# Altium footprint library LQFP80(10.0X10.0).PcbLib: 1 footprints
Each footprint in its own frame and in the unit in brackets; x right, y up, seen from the top. Pads: shape width x height; smd on the part's side, far side on the other; paste and mask are expansions set on the pad; w line width, h text height; cw(c..) or ccw(c..) is an arc to the next point about the centre after c.
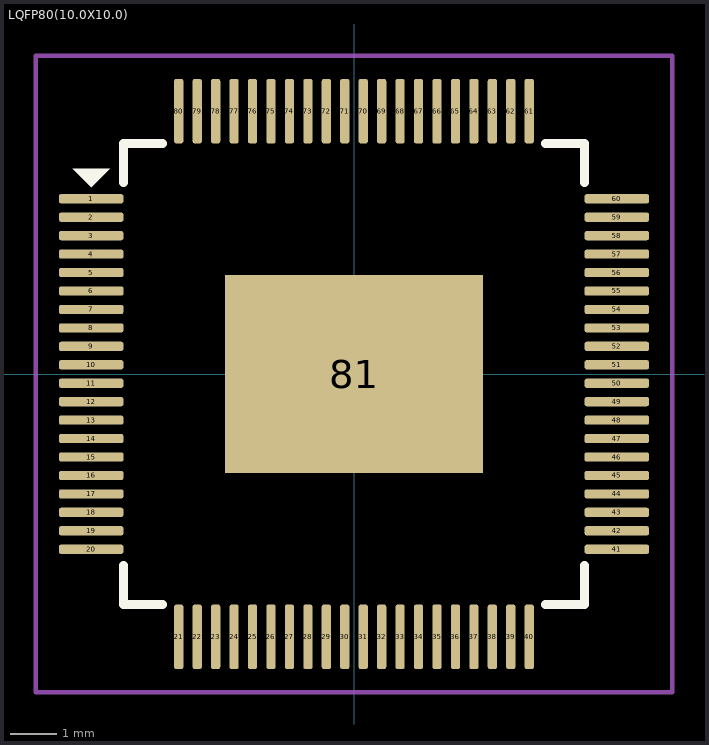
[diagram p0: the footprint, top view; thin cyan lines are the x and y axes]

## LQFP80(10.0X10.0) [mm]
pads (81):
  rrect50% 1.4x0.2 smd: 1(-5.7,3.8) 2(-5.7,3.4) 3(-5.7,3) 4(-5.7,2.6) 5(-5.7,2.2) 6(-5.7,1.8) 7(-5.7,1.4) 8(-5.7,1) 9(-5.7,0.6) 10(-5.7,0.2) 11(-5.7,-0.2) 12(-5.7,-0.6) 13(-5.7,-1) 14(-5.7,-1.4) 15(-5.7,-1.8) 16(-5.7,-2.2) 17(-5.7,-2.6) 18(-5.7,-3) 19(-5.7,-3.4) 20(-5.7,-3.8) 41(5.7,-3.8) 42(5.7,-3.4) 43(5.7,-3) 44(5.7,-2.6) 45(5.7,-2.2) 46(5.7,-1.8) 47(5.7,-1.4) 48(5.7,-1) 49(5.7,-0.6) 50(5.7,-0.2) 51(5.7,0.2) 52(5.7,0.6) 53(5.7,1) 54(5.7,1.4) 55(5.7,1.8) 56(5.7,2.2) 57(5.7,2.6) 58(5.7,3) 59(5.7,3.4) 60(5.7,3.8)
  rrect50% 0.2x1.4 smd: 21(-3.8,-5.7) 22(-3.4,-5.7) 23(-3,-5.7) 24(-2.6,-5.7) 25(-2.2,-5.7) 26(-1.8,-5.7) 27(-1.4,-5.7) 28(-1,-5.7) 29(-0.6,-5.7) 30(-0.2,-5.7) 31(0.2,-5.7) 32(0.6,-5.7) 33(1,-5.7) 34(1.4,-5.7) 35(1.8,-5.7) 36(2.2,-5.7) 37(2.6,-5.7) 38(3,-5.7) 39(3.4,-5.7) 40(3.8,-5.7) 61(3.8,5.7) 62(3.4,5.7) 63(3,5.7) 64(2.6,5.7) 65(2.2,5.7) 66(1.8,5.7) 67(1.4,5.7) 68(1,5.7) 69(0.6,5.7) 70(0.2,5.7) 71(-0.2,5.7) 72(-0.6,5.7) 73(-1,5.7) 74(-1.4,5.7) 75(-1.8,5.7) 76(-2.2,5.7) 77(-2.6,5.7) 78(-3,5.7) 79(-3.4,5.7) 80(-3.8,5.7)
  rect 5.6x4.3 smd: 81(0,0)
Top Overlay:
  region: -6.1,4.45 -5.3,4.45 -5.7,4.05
  lines w0.2: -5,-4.15 -5,-5 -4.15,-5 ; -5,4.15 -5,5 -4.15,5 ; 4.15,-5 5,-5 5,-4.15 ; 4.15,5 5,5 5,4.15
Top Courtyard:
  lines w0.1: -6.9,-6.9 6.9,-6.9 6.9,6.9 -6.9,6.9 -6.9,-6.9
3D body "TSQFP40P1200X1200X160_HS-81N.step": height 1.6, standoff 0, extent -6,-6 6,6